# Altium footprint library lib_hirose.PcbLib: 2 footprints
Each footprint in its own frame and in the unit in brackets; x right, y up, seen from the top. Pads: shape width x height; smd on the part's side, far side on the other; paste and mask are expansions set on the pad; w line width, h text height; cw(c..) or ccw(c..) is an arc to the next point about the centre after c.
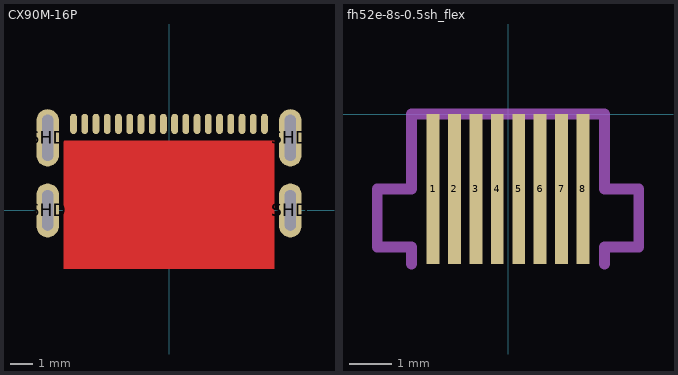
[diagram p0: the footprints below, top view; thin cyan lines are the x and y axes]

## CX90M-16P [mm]
pads (22):
  rrect100% 0.3x0.9 smd: A1(-3.75,3.85) A4(-2.75,3.85) A5(-1.75,3.85) A6(-0.75,3.85) A7(0.75,3.85) A8(1.75,3.85) A9(2.75,3.85) A12(3.75,3.85) B1(3.25,3.85) B4(2.25,3.85) B5(1.25,3.85) B6(0.25,3.85) B7(-0.25,3.85) B8(-1.25,3.85) B9(-2.25,3.85) B12(-3.25,3.85) MID(-4.25,3.85) MID(4.25,3.85)
  rrect100% 1x2.4 hole 0.5 slot 1.8 at 90 deg: SHD(-5.4,0) SHD(5.4,0)
  rrect100% 1x2.55 hole 0.5 slot 2.05 at 90 deg: SHD(-5.4,3.23) SHD(5.4,3.23)
Top Layer:
  pour cut-out: -4.675,-2.6 -4.675,3.1 4.675,3.1 4.675,-2.6
3D body "CX90M-16P_4800513000_3D_STEP.stp": height 1.56, standoff -1.41, extent -5.5,-2.45 5.5,4.1

## fh52e-8s-0.5sh_flex [mm] "FH52E-8S-0.5SH"
pads (8):
  rect 0.3x3.5 smd mask+0: 1(-1.75,-1.75) 2(-1.25,-1.75) 3(-0.75,-1.75) 4(-0.25,-1.75) 5(0.25,-1.75) 6(0.75,-1.75) 7(1.25,-1.75) 8(1.75,-1.75)
Top Solder:
  region: -2.25,0
  region: 0,0
  region: -2.25,0 -2.25,-1.75 -3.05,-1.75 -3.05,-3.1 -2.25,-3.1 -2.25,-3.5 2.25,-3.5 2.25,-3.1 3.05,-3.1 3.05,-1.75 2.25,-1.75 2.25,0
Mechanical 15:
  lines w0.254: -2.25,-3.5 -2.25,-3.1 -3.05,-3.1 -3.05,-1.75 -2.25,-1.75 -2.25,0 0,0 2.25,0 2.25,-1.75 3.05,-1.75 3.05,-3.1 2.25,-3.1 2.25,-3.5